# Altium integrated library ON Semi Silicon Controlled Rectifiers (SCRs).IntLib: 163 symbols (part 1 of 4)
Pins are listed as number, name and electrical type; pins without a type are passive.

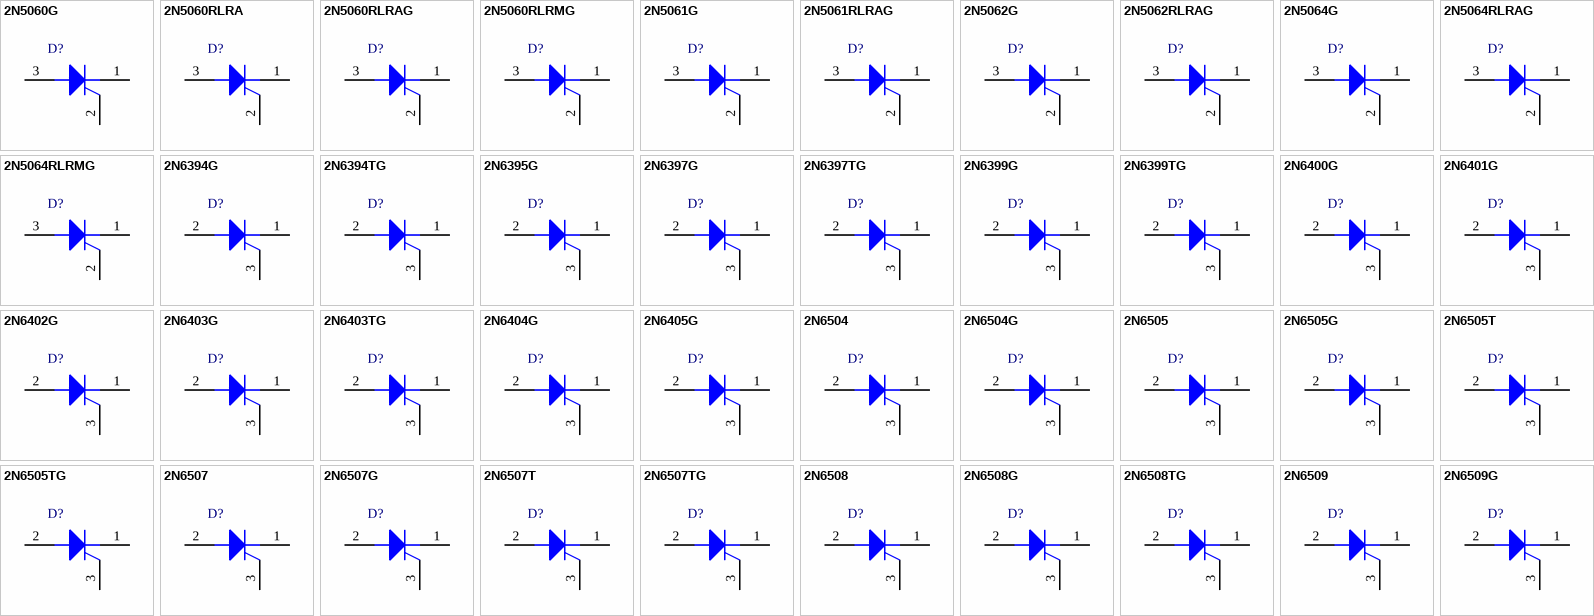
[diagram p0: symbols 2N5060G to 2N6509G]

## 2N5060G
designator D?
Sensitive Gate Silicon Controlled Rectifier, Reverse Blocking Thyristor, 3-Pin TO-92, Pb-Free, Bulk Box; Manufacturer: On Semiconductor; PartNumber: 2N5060G; IT(RMS) Max (A): 0.8; ITSM Max (A): 10; DatasheetVersion: Rev. 10; PackageVersion: Rev. AM; PackageReference: TO-92-3-29-11_AM_SL; PackageDescription: 3-Pin Transistor Outline, Body 4.825 x 3.685 mm, Pitch 1.27 mm; Supplier 1: Digi-Key; Supplier Part Number 1: 2N5060GOS-ND; Supplier 2: Farnell; Supplier Part Number 2: 9556516; Supplier 3: Newark; Supplier Part Number 3: 26K5287; Supplier 4: Mouser; Supplier Part Number 4: 863-2N5060G; Packing: Bulk Box; RoHS: Pb-Free; Mounting Technology: Through Hole; ComponentLink1Description: Manufacturer URL; ComponentLink1URL: http://www.onsemi.com/; ComponentLink2Description: Datasheet; ComponentLink2URL: http://www.onsemi.cn/pub_link/Collateral/2N5060-D.PDF; ComponentLink3Description: Package Specification; ComponentLink3URL: http://www.onsemi.cn/pub_link/Collateral/2N6426-D.PDF
footprint ONSC-TO-92-3-29-11 (TO, 3-Leads, Body Dia 4.7mm, Pitch 1.27mm)
pins: 1 K, 2 G, 3 A

## 2N5060RLRA
designator D?
Sensitive Gate Silicon Controlled Rectifier, Reverse Blocking Thyristor, 3-Pin TO-92, Tape and Reel; Manufacturer: On Semiconductor; PartNumber: 2N5060RLRA; IT(RMS) Max (A): 0.8; ITSM Max (A): 10; DatasheetVersion: Rev. 10; PackageVersion: Rev. AM; PackageReference: TO-92-3-29-11_AM_SL; PackageDescription: 3-Pin Transistor Outline, Body 4.825 x 3.685 mm, Pitch 1.27 mm; Packing: Tape and Reel; Mounting Technology: Through Hole; ComponentLink1Description: Manufacturer URL; ComponentLink1URL: http://www.onsemi.com/; ComponentLink2Description: Datasheet; ComponentLink2URL: http://www.onsemi.cn/pub_link/Collateral/2N5060-D.PDF; ComponentLink3Description: Package Specification; ComponentLink3URL: http://www.onsemi.cn/pub_link/Collateral/2N6426-D.PDF
footprint ONSC-TO-92-3-29-11 (TO, 3-Leads, Body Dia 4.7mm, Pitch 1.27mm)
pins: 1 K, 2 G, 3 A

## 2N5060RLRAG
designator D?
Sensitive Gate Silicon Controlled Rectifier, Reverse Blocking Thyristor, 3-Pin TO-92, Pb-Free, Tape and Reel; Manufacturer: On Semiconductor; PartNumber: 2N5060RLRAG; IT(RMS) Max (A): 0.8; ITSM Max (A): 10; DatasheetVersion: Rev. 10; PackageVersion: Rev. AM; PackageReference: TO-92-3-29-11_AM_SL; PackageDescription: 3-Pin Transistor Outline, Body 4.825 x 3.685 mm, Pitch 1.27 mm; Supplier 1: Digi-Key; Supplier Part Number 1: 2N5060RLRAG-ND; Supplier 2: Newark; Supplier Part Number 2: 72J1868; Supplier 3: Mouser; Supplier Part Number 3: 863-2N5060RLRAG; Packing: Tape and Reel; RoHS: Pb-Free; Mounting Technology: Through Hole; ComponentLink1Description: Manufacturer URL; ComponentLink1URL: http://www.onsemi.com/; ComponentLink2Description: Datasheet; ComponentLink2URL: http://www.onsemi.cn/pub_link/Collateral/2N5060-D.PDF; ComponentLink3Description: Package Specification; ComponentLink3URL: http://www.onsemi.cn/pub_link/Collateral/2N6426-D.PDF
footprint ONSC-TO-92-3-29-11 (TO, 3-Leads, Body Dia 4.7mm, Pitch 1.27mm)
pins: 1 K, 2 G, 3 A

## 2N5060RLRMG
designator D?
Sensitive Gate Silicon Controlled Rectifier, Reverse Blocking Thyristor, 3-Pin TO-92, Pb-Free, Fan-Fold; Manufacturer: On Semiconductor; PartNumber: 2N5060RLRMG; IT(RMS) Max (A): 0.8; ITSM Max (A): 10; DatasheetVersion: Rev. 10; PackageVersion: Rev. AM; PackageReference: TO-92-3-29-11_AM_SL; PackageDescription: 3-Pin Transistor Outline, Body 4.825 x 3.685 mm, Pitch 1.27 mm; Supplier 1: Digi-Key; Supplier Part Number 1: 2N5060RLRMGOSTB-ND; Supplier 2: Digi-Key; Supplier Part Number 2: 2N5060RLRMGOSCT-ND; Supplier 3: Newark; Supplier Part Number 3: 26K5288; Supplier 4: Mouser; Supplier Part Number 4: 863-2N5060RLRMG; Packing: Fan-Fold; RoHS: Pb-Free; Mounting Technology: Through Hole; ComponentLink1Description: Manufacturer URL; ComponentLink1URL: http://www.onsemi.com/; ComponentLink2Description: Datasheet; ComponentLink2URL: http://www.onsemi.cn/pub_link/Collateral/2N5060-D.PDF; ComponentLink3Description: Package Specification; ComponentLink3URL: http://www.onsemi.cn/pub_link/Collateral/2N6426-D.PDF
footprint ONSC-TO-92-3-29-11 (TO, 3-Leads, Body Dia 4.7mm, Pitch 1.27mm)
pins: 1 K, 2 G, 3 A

## 2N5061G
designator D?
Sensitive Gate Silicon Controlled Rectifier, Reverse Blocking Thyristor, 3-Pin TO-92, Pb-Free, Bulk Box; Manufacturer: On Semiconductor; PartNumber: 2N5061G; IT(RMS) Max (A): 0.8; ITSM Max (A): 10; DatasheetVersion: Rev. 10; PackageVersion: Rev. AM; PackageReference: TO-92-3-29-11_AM_SL; PackageDescription: 3-Pin Transistor Outline, Body 4.825 x 3.685 mm, Pitch 1.27 mm; Supplier 1: Digi-Key; Supplier Part Number 1: 2N5061GOS-ND; Supplier 2: Farnell; Supplier Part Number 2: 9556524; Supplier 3: Newark; Supplier Part Number 3: 45J2487; Supplier 4: Mouser; Supplier Part Number 4: 863-2N5061G; Packing: Bulk Box; RoHS: Pb-Free; Mounting Technology: Through Hole; ComponentLink1Description: Manufacturer URL; ComponentLink1URL: http://www.onsemi.com/; ComponentLink2Description: Datasheet; ComponentLink2URL: http://www.onsemi.cn/pub_link/Collateral/2N5060-D.PDF; ComponentLink3Description: Package Specification; ComponentLink3URL: http://www.onsemi.cn/pub_link/Collateral/2N6426-D.PDF
footprint ONSC-TO-92-3-29-11 (TO, 3-Leads, Body Dia 4.7mm, Pitch 1.27mm)
pins: 1 K, 2 G, 3 A

## 2N5061RLRAG
designator D?
Sensitive Gate Silicon Controlled Rectifier, Reverse Blocking Thyristor, 3-Pin TO-92, Pb-Free, Tape and Reel; Manufacturer: On Semiconductor; PartNumber: 2N5061RLRAG; IT(RMS) Max (A): 0.8; ITSM Max (A): 10; DatasheetVersion: Rev. 10; PackageVersion: Rev. AM; PackageReference: TO-92-3-29-11_AM_SL; PackageDescription: 3-Pin Transistor Outline, Body 4.825 x 3.685 mm, Pitch 1.27 mm; Supplier 1: Digi-Key; Supplier Part Number 1: 2N5061RLRAGOSTR-ND; Supplier 2: Digi-Key; Supplier Part Number 2: 2N5061RLRAGOSCT-ND; Supplier 3: Newark; Supplier Part Number 3: 10N9685; Supplier 4: Mouser; Supplier Part Number 4: 863-2N5061RLRAG; Packing: Tape and Reel; RoHS: Pb-Free; Mounting Technology: Through Hole; ComponentLink1Description: Manufacturer URL; ComponentLink1URL: http://www.onsemi.com/; ComponentLink2Description: Datasheet; ComponentLink2URL: http://www.onsemi.cn/pub_link/Collateral/2N5060-D.PDF; ComponentLink3Description: Package Specification; ComponentLink3URL: http://www.onsemi.cn/pub_link/Collateral/2N6426-D.PDF
footprint ONSC-TO-92-3-29-11 (TO, 3-Leads, Body Dia 4.7mm, Pitch 1.27mm)
pins: 1 K, 2 G, 3 A

## 2N5062G
designator D?
Sensitive Gate Silicon Controlled Rectifier, Reverse Blocking Thyristor, 3-Pin TO-92, Pb-Free, Bulk Box; Manufacturer: On Semiconductor; PartNumber: 2N5062G; IT(RMS) Max (A): 0.8; ITSM Max (A): 10; DatasheetVersion: Rev. 10; PackageVersion: Rev. AM; PackageReference: TO-92-3-29-11_AM_SL; PackageDescription: 3-Pin Transistor Outline, Body 4.825 x 3.685 mm, Pitch 1.27 mm; Supplier 1: Digi-Key; Supplier Part Number 1: 2N5062GOS-ND; Supplier 2: Farnell; Supplier Part Number 2: 9556532; Supplier 3: Newark; Supplier Part Number 3: 26K5289; Supplier 4: Mouser; Supplier Part Number 4: 863-2N5062G; Packing: Bulk Box; RoHS: Pb-Free; Mounting Technology: Through Hole; ComponentLink1Description: Manufacturer URL; ComponentLink1URL: http://www.onsemi.com/; ComponentLink2Description: Datasheet; ComponentLink2URL: http://www.onsemi.cn/pub_link/Collateral/2N5060-D.PDF; ComponentLink3Description: Package Specification; ComponentLink3URL: http://www.onsemi.cn/pub_link/Collateral/2N6426-D.PDF
footprint ONSC-TO-92-3-29-11 (TO, 3-Leads, Body Dia 4.7mm, Pitch 1.27mm)
pins: 1 K, 2 G, 3 A

## 2N5062RLRAG
designator D?
Sensitive Gate Silicon Controlled Rectifier, Reverse Blocking Thyristor, 3-Pin TO-92, Pb-Free, Tape and Reel; Manufacturer: On Semiconductor; PartNumber: 2N5062RLRAG; IT(RMS) Max (A): 0.8; ITSM Max (A): 10; DatasheetVersion: Rev. 10; PackageVersion: Rev. AM; PackageReference: TO-92-3-29-11_AM_SL; PackageDescription: 3-Pin Transistor Outline, Body 4.825 x 3.685 mm, Pitch 1.27 mm; Supplier 1: Digi-Key; Supplier Part Number 1: 2N5062RLRAGOSTR-ND; Supplier 2: Digi-Key; Supplier Part Number 2: 2N5062RLRAGOSCT-ND; Supplier 3: Newark; Supplier Part Number 3: 10N9686; Supplier 4: Mouser; Supplier Part Number 4: 863-2N5062RLRAG; Packing: Tape and Reel; RoHS: Pb-Free; Mounting Technology: Through Hole; ComponentLink1Description: Manufacturer URL; ComponentLink1URL: http://www.onsemi.com/; ComponentLink2Description: Datasheet; ComponentLink2URL: http://www.onsemi.cn/pub_link/Collateral/2N5060-D.PDF; ComponentLink3Description: Package Specification; ComponentLink3URL: http://www.onsemi.cn/pub_link/Collateral/2N6426-D.PDF
footprint ONSC-TO-92-3-29-11 (TO, 3-Leads, Body Dia 4.7mm, Pitch 1.27mm)
pins: 1 K, 2 G, 3 A

## 2N5064G
designator D?
Sensitive Gate Silicon Controlled Rectifier, Reverse Blocking Thyristor, 3-Pin TO-92, Pb-Free, Bulk Box; Manufacturer: On Semiconductor; PartNumber: 2N5064G; IT(RMS) Max (A): 0.8; ITSM Max (A): 10; DatasheetVersion: Rev. 10; PackageVersion: Rev. AM; PackageReference: TO-92-3-29-11_AM_SL; PackageDescription: 3-Pin Transistor Outline, Body 4.825 x 3.685 mm, Pitch 1.27 mm; Supplier 1: Digi-Key; Supplier Part Number 1: 2N5064GOS-ND; Supplier 2: Farnell; Supplier Part Number 2: 9556540; Supplier 3: Newark; Supplier Part Number 3: 26K5290; Supplier 4: Mouser; Supplier Part Number 4: 863-2N5064G; Packing: Bulk Box; RoHS: Pb-Free; Mounting Technology: Through Hole; ComponentLink1Description: Manufacturer URL; ComponentLink1URL: http://www.onsemi.com/; ComponentLink2Description: Datasheet; ComponentLink2URL: http://www.onsemi.cn/pub_link/Collateral/2N5060-D.PDF; ComponentLink3Description: Package Specification; ComponentLink3URL: http://www.onsemi.cn/pub_link/Collateral/2N6426-D.PDF
footprint ONSC-TO-92-3-29-11 (TO, 3-Leads, Body Dia 4.7mm, Pitch 1.27mm)
pins: 1 K, 2 G, 3 A

## 2N5064RLRAG
designator D?
Sensitive Gate Silicon Controlled Rectifier, Reverse Blocking Thyristor, 3-Pin TO-92, Pb-Free, Tape and Reel; Manufacturer: On Semiconductor; PartNumber: 2N5064RLRAG; IT(RMS) Max (A): 0.8; ITSM Max (A): 10; DatasheetVersion: Rev. 10; PackageVersion: Rev. AM; PackageReference: TO-92-3-29-11_AM_SL; PackageDescription: 3-Pin Transistor Outline, Body 4.825 x 3.685 mm, Pitch 1.27 mm; Supplier 1: Digi-Key; Supplier Part Number 1: 2N5064RLRAGOSTR-ND; Supplier 2: Digi-Key; Supplier Part Number 2: 2N5064RLRAGOSCT-ND; Supplier 3: Newark; Supplier Part Number 3: 10N9687; Supplier 4: Newark; Supplier Part Number 4: 42K3131; Supplier 5: Mouser; Supplier Part Number 5: 863-2N5064RLRAG; Packing: Tape and Reel; RoHS: Pb-Free; Mounting Technology: Through Hole; ComponentLink1Description: Manufacturer URL; ComponentLink1URL: http://www.onsemi.com/; ComponentLink2Description: Datasheet; ComponentLink2URL: http://www.onsemi.cn/pub_link/Collateral/2N5060-D.PDF; ComponentLink3Description: Package Specification; ComponentLink3URL: http://www.onsemi.cn/pub_link/Collateral/2N6426-D.PDF
footprint ONSC-TO-92-3-29-11 (TO, 3-Leads, Body Dia 4.7mm, Pitch 1.27mm)
pins: 1 K, 2 G, 3 A

## 2N5064RLRMG
designator D?
Sensitive Gate Silicon Controlled Rectifier, Reverse Blocking Thyristor, 3-Pin TO-92, Pb-Free, Fan-Fold; Manufacturer: On Semiconductor; PartNumber: 2N5064RLRMG; IT(RMS) Max (A): 0.8; ITSM Max (A): 10; DatasheetVersion: Rev. 10; PackageVersion: Rev. AM; PackageReference: TO-92-3-29-11_AM_SL; PackageDescription: 3-Pin Transistor Outline, Body 4.825 x 3.685 mm, Pitch 1.27 mm; Supplier 1: Digi-Key; Supplier Part Number 1: 2N5064RLRMGOSTB-ND; Supplier 2: Digi-Key; Supplier Part Number 2: 2N5064RLRMGOSCT-ND; Supplier 3: Mouser; Supplier Part Number 3: 863-2N5064RLRMG; Packing: Fan-Fold; RoHS: Pb-Free; Mounting Technology: Through Hole; ComponentLink1Description: Manufacturer URL; ComponentLink1URL: http://www.onsemi.com/; ComponentLink2Description: Datasheet; ComponentLink2URL: http://www.onsemi.cn/pub_link/Collateral/2N5060-D.PDF; ComponentLink3Description: Package Specification; ComponentLink3URL: http://www.onsemi.cn/pub_link/Collateral/2N6426-D.PDF
footprint ONSC-TO-92-3-29-11 (TO, 3-Leads, Body Dia 4.7mm, Pitch 1.27mm)
pins: 1 K, 2 G, 3 A

## 2N6394G
designator D?
Silicon Controlled Rectifier, Reverse Blocking Thyristor, 30 mA, 1.5 V, 3-Pin TO-220, Pb-Free, Bulk Box; Manufacturer: On Semiconductor; PartNumber: 2N6394G; IGT Max (mA): 30; IT(RMS) Max (A): 12; ITSM Max (A): 100; VGT Max (V): 1.5; DatasheetVersion: Rev. 9; PackageVersion: Rev. O, 07/2008; PackageReference: TO-220-3-221A-07; PackageDescription: 3-Pin Flange Mount, Vertical Straight Lead, Body 9.97 x 4.445 mm, Pitch 2.54 mm; Supplier 1: Digi-Key; Supplier Part Number 1: 2N6394GOS-ND; Supplier 2: Farnell; Supplier Part Number 2: 1126535; Supplier 3: Newark; Supplier Part Number 3: 45J2505; Supplier 4: Mouser; Supplier Part Number 4: 863-2N6394G; Packing: Bulk Box; RoHS: Pb-Free; Mounting Technology: Through Hole; ComponentLink1Description: Manufacturer URL; ComponentLink1URL: http://www.onsemi.com/; ComponentLink2Description: Datasheet; ComponentLink2URL: http://www.onsemi.cn/pub_link/Collateral/2N6394-D.PDF; ComponentLink3Description: Package Specification; ComponentLink3URL: http://www.onsemi.com/pub_link/Collateral/221A-07.PDF
footprint ONSC-TO-220-3-221A-07 (FM, 3-Leads, Body 10.3x4.85mm, Pitch 2.54mm)
pins: 1 K, 2 A, 3 G

## 2N6394TG
designator D?
Silicon Controlled Rectifier, Reverse Blocking Thyristor, 30 mA, 1.5 V, 3-Pin TO-220, Pb-Free, Tube; Manufacturer: On Semiconductor; PartNumber: 2N6394TG; IGT Max (mA): 30; IT(RMS) Max (A): 12; ITSM Max (A): 100; VGT Max (V): 1.5; DatasheetVersion: Rev. 9; PackageVersion: Rev. O, 07/2008; PackageReference: TO-220-3-221A-07; PackageDescription: 3-Pin Flange Mount, Vertical Straight Lead, Body 9.97 x 4.445 mm, Pitch 2.54 mm; Supplier 1: Digi-Key; Supplier Part Number 1: 2N6394TG-ND; Supplier 2: Newark; Supplier Part Number 2: 16M4707; Supplier 3: Mouser; Supplier Part Number 3: 863-2N6394TG; Packing: Tube; RoHS: Pb-Free; Mounting Technology: Through Hole; ComponentLink1Description: Manufacturer URL; ComponentLink1URL: http://www.onsemi.com/; ComponentLink2Description: Datasheet; ComponentLink2URL: http://www.onsemi.cn/pub_link/Collateral/2N6394-D.PDF; ComponentLink3Description: Package Specification; ComponentLink3URL: http://www.onsemi.com/pub_link/Collateral/221A-07.PDF
footprint ONSC-TO-220-3-221A-07 (FM, 3-Leads, Body 10.3x4.85mm, Pitch 2.54mm)
pins: 1 K, 2 A, 3 G

## 2N6395G
designator D?
Silicon Controlled Rectifier, Reverse Blocking Thyristor, 30 mA, 1.5 V, 3-Pin TO-220, Pb-Free, Bulk Box; Manufacturer: On Semiconductor; PartNumber: 2N6395G; IGT Max (mA): 30; IT(RMS) Max (A): 12; ITSM Max (A): 100; VGT Max (V): 1.5; DatasheetVersion: Rev. 9; PackageVersion: Rev. O, 07/2008; PackageReference: TO-220-3-221A-07; PackageDescription: 3-Pin Flange Mount, Vertical Straight Lead, Body 9.97 x 4.445 mm, Pitch 2.54 mm; Supplier 1: Digi-Key; Supplier Part Number 1: 2N6395GOS-ND; Supplier 2: Farnell; Supplier Part Number 2: 1282782; Supplier 3: Newark; Supplier Part Number 3: 26K5320; Supplier 4: Mouser; Supplier Part Number 4: 863-2N6395G; Packing: Bulk Box; RoHS: Pb-Free; Mounting Technology: Through Hole; ComponentLink1Description: Manufacturer URL; ComponentLink1URL: http://www.onsemi.com/; ComponentLink2Description: Datasheet; ComponentLink2URL: http://www.onsemi.cn/pub_link/Collateral/2N6394-D.PDF; ComponentLink3Description: Package Specification; ComponentLink3URL: http://www.onsemi.com/pub_link/Collateral/221A-07.PDF
footprint ONSC-TO-220-3-221A-07 (FM, 3-Leads, Body 10.3x4.85mm, Pitch 2.54mm)
pins: 1 K, 2 A, 3 G

## 2N6397G
designator D?
Silicon Controlled Rectifier, Reverse Blocking Thyristor, 30 mA, 1.5 V, 3-Pin TO-220, Pb-Free, Bulk Box; Manufacturer: On Semiconductor; PartNumber: 2N6397G; IGT Max (mA): 30; IT(RMS) Max (A): 12; ITSM Max (A): 100; VGT Max (V): 1.5; DatasheetVersion: Rev. 9; PackageVersion: Rev. O, 07/2008; PackageReference: TO-220-3-221A-07; PackageDescription: 3-Pin Flange Mount, Vertical Straight Lead, Body 9.97 x 4.445 mm, Pitch 2.54 mm; Supplier 1: Digi-Key; Supplier Part Number 1: 2N6397GOS-ND; Supplier 2: Farnell; Supplier Part Number 2: 9556753; Supplier 3: Newark; Supplier Part Number 3: 26K5321; Supplier 4: Mouser; Supplier Part Number 4: 863-2N6397G; Packing: Bulk Box; RoHS: Pb-Free; Mounting Technology: Through Hole; ComponentLink1Description: Manufacturer URL; ComponentLink1URL: http://www.onsemi.com/; ComponentLink2Description: Datasheet; ComponentLink2URL: http://www.onsemi.cn/pub_link/Collateral/2N6394-D.PDF; ComponentLink3Description: Package Specification; ComponentLink3URL: http://www.onsemi.com/pub_link/Collateral/221A-07.PDF
footprint ONSC-TO-220-3-221A-07 (FM, 3-Leads, Body 10.3x4.85mm, Pitch 2.54mm)
pins: 1 K, 2 A, 3 G

## 2N6397TG
designator D?
Silicon Controlled Rectifier, Reverse Blocking Thyristor, 30 mA, 1.5 V, 3-Pin TO-220, Pb-Free, Tube; Manufacturer: On Semiconductor; PartNumber: 2N6397TG; IGT Max (mA): 30; IT(RMS) Max (A): 12; ITSM Max (A): 100; VGT Max (V): 1.5; DatasheetVersion: Rev. 9; PackageVersion: Rev. O, 07/2008; PackageReference: TO-220-3-221A-07; PackageDescription: 3-Pin Flange Mount, Vertical Straight Lead, Body 9.97 x 4.445 mm, Pitch 2.54 mm; Supplier 1: Digi-Key; Supplier Part Number 1: 2N6397TG-ND; Supplier 2: Newark; Supplier Part Number 2: 42K3178; Supplier 3: Mouser; Supplier Part Number 3: 863-2N6397TG; Packing: Tube; RoHS: Pb-Free; Mounting Technology: Through Hole; ComponentLink1Description: Manufacturer URL; ComponentLink1URL: http://www.onsemi.com/; ComponentLink2Description: Datasheet; ComponentLink2URL: http://www.onsemi.cn/pub_link/Collateral/2N6394-D.PDF; ComponentLink3Description: Package Specification; ComponentLink3URL: http://www.onsemi.com/pub_link/Collateral/221A-07.PDF
footprint ONSC-TO-220-3-221A-07 (FM, 3-Leads, Body 10.3x4.85mm, Pitch 2.54mm)
pins: 1 K, 2 A, 3 G

## 2N6399G
designator D?
Silicon Controlled Rectifier, Reverse Blocking Thyristor, 30 mA, 1.5 V, 3-Pin TO-220, Pb-Free, Bulk Box; Manufacturer: On Semiconductor; PartNumber: 2N6399G; IGT Max (mA): 30; IT(RMS) Max (A): 12; ITSM Max (A): 100; VGT Max (V): 1.5; DatasheetVersion: Rev. 9; PackageVersion: Rev. O, 07/2008; PackageReference: TO-220-3-221A-07; PackageDescription: 3-Pin Flange Mount, Vertical Straight Lead, Body 9.97 x 4.445 mm, Pitch 2.54 mm; Supplier 1: Digi-Key; Supplier Part Number 1: 2N6399GOS-ND; Supplier 2: Farnell; Supplier Part Number 2: 1459025; Supplier 3: Newark; Supplier Part Number 3: 72J1871; Supplier 4: Mouser; Supplier Part Number 4: 863-2N6399G; Packing: Bulk Box; RoHS: Pb-Free; Mounting Technology: Through Hole; ComponentLink1Description: Manufacturer URL; ComponentLink1URL: http://www.onsemi.com/; ComponentLink2Description: Datasheet; ComponentLink2URL: http://www.onsemi.cn/pub_link/Collateral/2N6394-D.PDF; ComponentLink3Description: Package Specification; ComponentLink3URL: http://www.onsemi.com/pub_link/Collateral/221A-07.PDF
footprint ONSC-TO-220-3-221A-07 (FM, 3-Leads, Body 10.3x4.85mm, Pitch 2.54mm)
pins: 1 K, 2 A, 3 G

## 2N6399TG
designator D?
Silicon Controlled Rectifier, Reverse Blocking Thyristor, 30 mA, 1.5 V, 3-Pin TO-220, Pb-Free, Tube; Manufacturer: On Semiconductor; PartNumber: 2N6399TG; IGT Max (mA): 30; IT(RMS) Max (A): 12; ITSM Max (A): 100; VGT Max (V): 1.5; DatasheetVersion: Rev. 9; PackageVersion: Rev. O, 07/2008; PackageReference: TO-220-3-221A-07; PackageDescription: 3-Pin Flange Mount, Vertical Straight Lead, Body 9.97 x 4.445 mm, Pitch 2.54 mm; Supplier 1: Digi-Key; Supplier Part Number 1: 2N6399TG-ND; Supplier 2: Mouser; Supplier Part Number 2: 863-2N6399TG; Packing: Tube; RoHS: Pb-Free; Mounting Technology: Through Hole; ComponentLink1Description: Manufacturer URL; ComponentLink1URL: http://www.onsemi.com/; ComponentLink2Description: Datasheet; ComponentLink2URL: http://www.onsemi.cn/pub_link/Collateral/2N6394-D.PDF; ComponentLink3Description: Package Specification; ComponentLink3URL: http://www.onsemi.com/pub_link/Collateral/221A-07.PDF
footprint ONSC-TO-220-3-221A-07 (FM, 3-Leads, Body 10.3x4.85mm, Pitch 2.54mm)
pins: 1 K, 2 A, 3 G

## 2N6400G
designator D?
Silicon Controlled Rectifier, Reverse Blocking Thyristor, 3-Pin TO-220, Pb-Free, Bulk Box; Manufacturer: On Semiconductor; PartNumber: 2N6400G; IT(RMS) Max (A): 16; ITSM Max (A): 160; DatasheetVersion: Rev. 6; PackageVersion: Rev. O, 07/2008; PackageReference: TO-220-3-221A-07; PackageDescription: 3-Pin Flange Mount, Vertical Straight Lead, Body 9.97 x 4.445 mm, Pitch 2.54 mm; Supplier 1: Digi-Key; Supplier Part Number 1: 2N6400GOS-ND; Supplier 2: Farnell; Supplier Part Number 2: 1126367; Supplier 3: Newark; Supplier Part Number 3: 42K3179; Supplier 4: Mouser; Supplier Part Number 4: 863-2N6400G; Packing: Bulk Box; RoHS: Pb-Free; Mounting Technology: Through Hole; ComponentLink1Description: Manufacturer URL; ComponentLink1URL: http://www.onsemi.com/; ComponentLink2Description: Datasheet; ComponentLink2URL: http://www.onsemi.cn/pub_link/Collateral/2N6400-D.PDF; ComponentLink3Description: Package Specification; ComponentLink3URL: http://www.onsemi.com/pub_link/Collateral/221A-07.PDF
footprint ONSC-TO-220-3-221A-07 (FM, 3-Leads, Body 10.3x4.85mm, Pitch 2.54mm)
pins: 1 K, 2 A, 3 G

## 2N6401G
designator D?
Silicon Controlled Rectifier, Reverse Blocking Thyristor, 3-Pin TO-220, Pb-Free, Bulk Box; Manufacturer: On Semiconductor; PartNumber: 2N6401G; IT(RMS) Max (A): 16; ITSM Max (A): 160; DatasheetVersion: Rev. 6; PackageVersion: Rev. O, 07/2008; PackageReference: TO-220-3-221A-07; PackageDescription: 3-Pin Flange Mount, Vertical Straight Lead, Body 9.97 x 4.445 mm, Pitch 2.54 mm; Supplier 1: Digi-Key; Supplier Part Number 1: 2N6401GOS-ND; Supplier 2: Farnell; Supplier Part Number 2: 1204516; Supplier 3: Newark; Supplier Part Number 3: 72J1872; Supplier 4: Mouser; Supplier Part Number 4: 863-2N6401G; Packing: Bulk Box; RoHS: Pb-Free; Mounting Technology: Through Hole; ComponentLink1Description: Manufacturer URL; ComponentLink1URL: http://www.onsemi.com/; ComponentLink2Description: Datasheet; ComponentLink2URL: http://www.onsemi.cn/pub_link/Collateral/2N6400-D.PDF; ComponentLink3Description: Package Specification; ComponentLink3URL: http://www.onsemi.com/pub_link/Collateral/221A-07.PDF
footprint ONSC-TO-220-3-221A-07 (FM, 3-Leads, Body 10.3x4.85mm, Pitch 2.54mm)
pins: 1 K, 2 A, 3 G

## 2N6402G
designator D?
Silicon Controlled Rectifier, Reverse Blocking Thyristor, 3-Pin TO-220, Pb-Free, Bulk Box; Manufacturer: On Semiconductor; PartNumber: 2N6402G; IT(RMS) Max (A): 16; ITSM Max (A): 160; DatasheetVersion: Rev. 6; PackageVersion: Rev. O, 07/2008; PackageReference: TO-220-3-221A-07; PackageDescription: 3-Pin Flange Mount, Vertical Straight Lead, Body 9.97 x 4.445 mm, Pitch 2.54 mm; Supplier 1: Digi-Key; Supplier Part Number 1: 2N6402GOS-ND; Supplier 2: Farnell; Supplier Part Number 2: 1147765; Supplier 3: Newark; Supplier Part Number 3: 42K3180; Supplier 4: Mouser; Supplier Part Number 4: 863-2N6402G; Packing: Bulk Box; RoHS: Pb-Free; Mounting Technology: Through Hole; ComponentLink1Description: Manufacturer URL; ComponentLink1URL: http://www.onsemi.com/; ComponentLink2Description: Datasheet; ComponentLink2URL: http://www.onsemi.cn/pub_link/Collateral/2N6400-D.PDF; ComponentLink3Description: Package Specification; ComponentLink3URL: http://www.onsemi.com/pub_link/Collateral/221A-07.PDF
footprint ONSC-TO-220-3-221A-07 (FM, 3-Leads, Body 10.3x4.85mm, Pitch 2.54mm)
pins: 1 K, 2 A, 3 G

## 2N6403G
designator D?
Silicon Controlled Rectifier, Reverse Blocking Thyristor, 3-Pin TO-220, Pb-Free, Bulk Box; Manufacturer: On Semiconductor; PartNumber: 2N6403G; IT(RMS) Max (A): 16; ITSM Max (A): 160; DatasheetVersion: Rev. 6; PackageVersion: Rev. O, 07/2008; PackageReference: TO-220-3-221A-07; PackageDescription: 3-Pin Flange Mount, Vertical Straight Lead, Body 9.97 x 4.445 mm, Pitch 2.54 mm; Supplier 1: Digi-Key; Supplier Part Number 1: 2N6403GOS-ND; Supplier 2: Farnell; Supplier Part Number 2: 1459026; Supplier 3: Newark; Supplier Part Number 3: 26K5322; Supplier 4: Mouser; Supplier Part Number 4: 863-2N6403G; Packing: Bulk Box; RoHS: Pb-Free; Mounting Technology: Through Hole; ComponentLink1Description: Manufacturer URL; ComponentLink1URL: http://www.onsemi.com/; ComponentLink2Description: Datasheet; ComponentLink2URL: http://www.onsemi.cn/pub_link/Collateral/2N6400-D.PDF; ComponentLink3Description: Package Specification; ComponentLink3URL: http://www.onsemi.com/pub_link/Collateral/221A-07.PDF
footprint ONSC-TO-220-3-221A-07 (FM, 3-Leads, Body 10.3x4.85mm, Pitch 2.54mm)
pins: 1 K, 2 A, 3 G

## 2N6403TG
designator D?
Silicon Controlled Rectifier, Reverse Blocking Thyristor, 3-Pin TO-220, Pb-Free, Tube; Manufacturer: On Semiconductor; PartNumber: 2N6403TG; IT(RMS) Max (A): 16; ITSM Max (A): 160; DatasheetVersion: Rev. 6; PackageVersion: Rev. O, 07/2008; PackageReference: TO-220-3-221A-07; PackageDescription: 3-Pin Flange Mount, Vertical Straight Lead, Body 9.97 x 4.445 mm, Pitch 2.54 mm; Supplier 1: Digi-Key; Supplier Part Number 1: 2N6403TG-ND; Supplier 2: Newark; Supplier Part Number 2: 01P5202; Supplier 3: Mouser; Supplier Part Number 3: 863-2N6403TG; Packing: Tube; RoHS: Pb-Free; Mounting Technology: Through Hole; ComponentLink1Description: Manufacturer URL; ComponentLink1URL: http://www.onsemi.com/; ComponentLink2Description: Datasheet; ComponentLink2URL: http://www.onsemi.cn/pub_link/Collateral/2N6400-D.PDF; ComponentLink3Description: Package Specification; ComponentLink3URL: http://www.onsemi.com/pub_link/Collateral/221A-07.PDF
footprint ONSC-TO-220-3-221A-07 (FM, 3-Leads, Body 10.3x4.85mm, Pitch 2.54mm)
pins: 1 K, 2 A, 3 G

## 2N6404G
designator D?
Silicon Controlled Rectifier, Reverse Blocking Thyristor, 3-Pin TO-220, Pb-Free, Bulk Box; Manufacturer: On Semiconductor; PartNumber: 2N6404G; IT(RMS) Max (A): 16; ITSM Max (A): 160; DatasheetVersion: Rev. 6; PackageVersion: Rev. O, 07/2008; PackageReference: TO-220-3-221A-07; PackageDescription: 3-Pin Flange Mount, Vertical Straight Lead, Body 9.97 x 4.445 mm, Pitch 2.54 mm; Supplier 1: Digi-Key; Supplier Part Number 1: 2N6404GOS-ND; Supplier 2: Farnell; Supplier Part Number 2: 1126368; Supplier 3: Newark; Supplier Part Number 3: 42K3181; Supplier 4: Mouser; Supplier Part Number 4: 863-2N6404G; Packing: Bulk Box; RoHS: Pb-Free; Mounting Technology: Through Hole; ComponentLink1Description: Manufacturer URL; ComponentLink1URL: http://www.onsemi.com/; ComponentLink2Description: Datasheet; ComponentLink2URL: http://www.onsemi.cn/pub_link/Collateral/2N6400-D.PDF; ComponentLink3Description: Package Specification; ComponentLink3URL: http://www.onsemi.com/pub_link/Collateral/221A-07.PDF
footprint ONSC-TO-220-3-221A-07 (FM, 3-Leads, Body 10.3x4.85mm, Pitch 2.54mm)
pins: 1 K, 2 A, 3 G

## 2N6405G
designator D?
Silicon Controlled Rectifier, Reverse Blocking Thyristor, 3-Pin TO-220, Pb-Free, Bulk Box; Manufacturer: On Semiconductor; PartNumber: 2N6405G; IT(RMS) Max (A): 16; ITSM Max (A): 160; DatasheetVersion: Rev. 6; PackageVersion: Rev. O, 07/2008; PackageReference: TO-220-3-221A-07; PackageDescription: 3-Pin Flange Mount, Vertical Straight Lead, Body 9.97 x 4.445 mm, Pitch 2.54 mm; Supplier 1: Digi-Key; Supplier Part Number 1: 2N6405GOS-ND; Supplier 2: Farnell; Supplier Part Number 2: 9556176; Supplier 3: Newark; Supplier Part Number 3: 42K3182; Supplier 4: Mouser; Supplier Part Number 4: 863-2N6405G; Packing: Bulk Box; RoHS: Pb-Free; Mounting Technology: Through Hole; ComponentLink1Description: Manufacturer URL; ComponentLink1URL: http://www.onsemi.com/; ComponentLink2Description: Datasheet; ComponentLink2URL: http://www.onsemi.cn/pub_link/Collateral/2N6400-D.PDF; ComponentLink3Description: Package Specification; ComponentLink3URL: http://www.onsemi.com/pub_link/Collateral/221A-07.PDF
footprint ONSC-TO-220-3-221A-07 (FM, 3-Leads, Body 10.3x4.85mm, Pitch 2.54mm)
pins: 1 K, 2 A, 3 G

## 2N6504
designator D?
Silicon Controlled Rectifier, Reverse Blocking Thyristor, 1.5 V, 3-Pin TO-220, Bulk Box; Manufacturer: On Semiconductor; PartNumber: 2N6504; IT(RMS) Max (A): 25; ITSM Max (A): 250; VGT Max (V): 1.5; DatasheetVersion: Rev. 8; PackageVersion: Rev. O, 07/2008; PackageReference: TO-220-3-221A-07; PackageDescription: 3-Pin Flange Mount, Vertical Straight Lead, Body 9.97 x 4.445 mm, Pitch 2.54 mm; Packing: Bulk Box; Mounting Technology: Through Hole; ComponentLink1Description: Manufacturer URL; ComponentLink1URL: http://www.onsemi.com/; ComponentLink2Description: Datasheet; ComponentLink2URL: http://www.onsemi.cn/pub_link/Collateral/2N6504-D.PDF; ComponentLink3Description: Package Specification; ComponentLink3URL: http://www.onsemi.com/pub_link/Collateral/221A-07.PDF
footprint ONSC-TO-220-3-221A-07 (FM, 3-Leads, Body 10.3x4.85mm, Pitch 2.54mm)
pins: 1 K, 2 A, 3 G

## 2N6504G
designator D?
Silicon Controlled Rectifier, Reverse Blocking Thyristor, 1.5 V, 3-Pin TO-220, Pb-Free, Bulk Box; Manufacturer: On Semiconductor; PartNumber: 2N6504G; IT(RMS) Max (A): 25; ITSM Max (A): 250; VGT Max (V): 1.5; DatasheetVersion: Rev. 8; PackageVersion: Rev. O, 07/2008; PackageReference: TO-220-3-221A-07; PackageDescription: 3-Pin Flange Mount, Vertical Straight Lead, Body 9.97 x 4.445 mm, Pitch 2.54 mm; Supplier 1: Digi-Key; Supplier Part Number 1: 2N6504GOS-ND; Supplier 2: Farnell; Supplier Part Number 2: 1203002; Supplier 3: Newark; Supplier Part Number 3: 45J2508; Supplier 4: Mouser; Supplier Part Number 4: 863-2N6504G; Packing: Bulk Box; RoHS: Pb-Free; Mounting Technology: Through Hole; ComponentLink1Description: Manufacturer URL; ComponentLink1URL: http://www.onsemi.com/; ComponentLink2Description: Datasheet; ComponentLink2URL: http://www.onsemi.cn/pub_link/Collateral/2N6504-D.PDF; ComponentLink3Description: Package Specification; ComponentLink3URL: http://www.onsemi.com/pub_link/Collateral/221A-07.PDF
footprint ONSC-TO-220-3-221A-07 (FM, 3-Leads, Body 10.3x4.85mm, Pitch 2.54mm)
pins: 1 K, 2 A, 3 G

## 2N6505
designator D?
Silicon Controlled Rectifier, Reverse Blocking Thyristor, 1.5 V, 3-Pin TO-220, Bulk Box; Manufacturer: On Semiconductor; PartNumber: 2N6505; IT(RMS) Max (A): 25; ITSM Max (A): 250; VGT Max (V): 1.5; DatasheetVersion: Rev. 8; PackageVersion: Rev. O, 07/2008; PackageReference: TO-220-3-221A-07; PackageDescription: 3-Pin Flange Mount, Vertical Straight Lead, Body 9.97 x 4.445 mm, Pitch 2.54 mm; Packing: Bulk Box; Mounting Technology: Through Hole; ComponentLink1Description: Manufacturer URL; ComponentLink1URL: http://www.onsemi.com/; ComponentLink2Description: Datasheet; ComponentLink2URL: http://www.onsemi.cn/pub_link/Collateral/2N6504-D.PDF; ComponentLink3Description: Package Specification; ComponentLink3URL: http://www.onsemi.com/pub_link/Collateral/221A-07.PDF
footprint ONSC-TO-220-3-221A-07 (FM, 3-Leads, Body 10.3x4.85mm, Pitch 2.54mm)
pins: 1 K, 2 A, 3 G

## 2N6505G
designator D?
Silicon Controlled Rectifier, Reverse Blocking Thyristor, 1.5 V, 3-Pin TO-220, Pb-Free, Bulk Box; Manufacturer: On Semiconductor; PartNumber: 2N6505G; IT(RMS) Max (A): 25; ITSM Max (A): 250; VGT Max (V): 1.5; DatasheetVersion: Rev. 8; PackageVersion: Rev. O, 07/2008; PackageReference: TO-220-3-221A-07; PackageDescription: 3-Pin Flange Mount, Vertical Straight Lead, Body 9.97 x 4.445 mm, Pitch 2.54 mm; Supplier 1: Digi-Key; Supplier Part Number 1: 2N6505GOS-ND; Supplier 2: Farnell; Supplier Part Number 2: 1189362; Supplier 3: Newark; Supplier Part Number 3: 26K5326; Supplier 4: Mouser; Supplier Part Number 4: 863-2N6505G; Packing: Bulk Box; RoHS: Pb-Free; Mounting Technology: Through Hole; ComponentLink1Description: Manufacturer URL; ComponentLink1URL: http://www.onsemi.com/; ComponentLink2Description: Datasheet; ComponentLink2URL: http://www.onsemi.cn/pub_link/Collateral/2N6504-D.PDF; ComponentLink3Description: Package Specification; ComponentLink3URL: http://www.onsemi.com/pub_link/Collateral/221A-07.PDF
footprint ONSC-TO-220-3-221A-07 (FM, 3-Leads, Body 10.3x4.85mm, Pitch 2.54mm)
pins: 1 K, 2 A, 3 G

## 2N6505T
designator D?
Silicon Controlled Rectifier, Reverse Blocking Thyristor, 1.5 V, 3-Pin TO-220, Tube; Manufacturer: On Semiconductor; PartNumber: 2N6505T; IT(RMS) Max (A): 25; ITSM Max (A): 250; VGT Max (V): 1.5; DatasheetVersion: Rev. 8; PackageVersion: Rev. O, 07/2008; PackageReference: TO-220-3-221A-07; PackageDescription: 3-Pin Flange Mount, Vertical Straight Lead, Body 9.97 x 4.445 mm, Pitch 2.54 mm; Supplier 1: Mouser; Supplier Part Number 1: 863-2N6505T; Packing: Tube; Mounting Technology: Through Hole; ComponentLink1Description: Manufacturer URL; ComponentLink1URL: http://www.onsemi.com/; ComponentLink2Description: Datasheet; ComponentLink2URL: http://www.onsemi.cn/pub_link/Collateral/2N6504-D.PDF; ComponentLink3Description: Package Specification; ComponentLink3URL: http://www.onsemi.com/pub_link/Collateral/221A-07.PDF
footprint ONSC-TO-220-3-221A-07 (FM, 3-Leads, Body 10.3x4.85mm, Pitch 2.54mm)
pins: 1 K, 2 A, 3 G

## 2N6505TG
designator D?
Silicon Controlled Rectifier, Reverse Blocking Thyristor, 1.5 V, 3-Pin TO-220, Pb-Free, Tube; Manufacturer: On Semiconductor; PartNumber: 2N6505TG; IT(RMS) Max (A): 25; ITSM Max (A): 250; VGT Max (V): 1.5; DatasheetVersion: Rev. 8; PackageVersion: Rev. O, 07/2008; PackageReference: TO-220-3-221A-07; PackageDescription: 3-Pin Flange Mount, Vertical Straight Lead, Body 9.97 x 4.445 mm, Pitch 2.54 mm; Supplier 1: Digi-Key; Supplier Part Number 1: 2N6505TG-ND; Supplier 2: Mouser; Supplier Part Number 2: 863-2N6505TG; Packing: Tube; RoHS: Pb-Free; Mounting Technology: Through Hole; ComponentLink1Description: Manufacturer URL; ComponentLink1URL: http://www.onsemi.com/; ComponentLink2Description: Datasheet; ComponentLink2URL: http://www.onsemi.cn/pub_link/Collateral/2N6504-D.PDF; ComponentLink3Description: Package Specification; ComponentLink3URL: http://www.onsemi.com/pub_link/Collateral/221A-07.PDF
footprint ONSC-TO-220-3-221A-07 (FM, 3-Leads, Body 10.3x4.85mm, Pitch 2.54mm)
pins: 1 K, 2 A, 3 G

## 2N6507
designator D?
Silicon Controlled Rectifier, Reverse Blocking Thyristor, 1.5 V, 3-Pin TO-220, Bulk Box; Manufacturer: On Semiconductor; PartNumber: 2N6507; IT(RMS) Max (A): 25; ITSM Max (A): 250; VGT Max (V): 1.5; DatasheetVersion: Rev. 8; PackageVersion: Rev. O, 07/2008; PackageReference: TO-220-3-221A-07; PackageDescription: 3-Pin Flange Mount, Vertical Straight Lead, Body 9.97 x 4.445 mm, Pitch 2.54 mm; Packing: Bulk Box; Mounting Technology: Through Hole; ComponentLink1Description: Manufacturer URL; ComponentLink1URL: http://www.onsemi.com/; ComponentLink2Description: Datasheet; ComponentLink2URL: http://www.onsemi.cn/pub_link/Collateral/2N6504-D.PDF; ComponentLink3Description: Package Specification; ComponentLink3URL: http://www.onsemi.com/pub_link/Collateral/221A-07.PDF
footprint ONSC-TO-220-3-221A-07 (FM, 3-Leads, Body 10.3x4.85mm, Pitch 2.54mm)
pins: 1 K, 2 A, 3 G

## 2N6507G
designator D?
Silicon Controlled Rectifier, Reverse Blocking Thyristor, 1.5 V, 3-Pin TO-220, Pb-Free, Bulk Box; Manufacturer: On Semiconductor; PartNumber: 2N6507G; IT(RMS) Max (A): 25; ITSM Max (A): 250; VGT Max (V): 1.5; DatasheetVersion: Rev. 8; PackageVersion: Rev. O, 07/2008; PackageReference: TO-220-3-221A-07; PackageDescription: 3-Pin Flange Mount, Vertical Straight Lead, Body 9.97 x 4.445 mm, Pitch 2.54 mm; Supplier 1: Digi-Key; Supplier Part Number 1: 2N6507GOS-ND; Supplier 2: Farnell; Supplier Part Number 2: 9557199; Supplier 3: Newark; Supplier Part Number 3: 26K5327; Supplier 4: Mouser; Supplier Part Number 4: 863-2N6507G; Packing: Bulk Box; RoHS: Pb-Free; Mounting Technology: Through Hole; ComponentLink1Description: Manufacturer URL; ComponentLink1URL: http://www.onsemi.com/; ComponentLink2Description: Datasheet; ComponentLink2URL: http://www.onsemi.cn/pub_link/Collateral/2N6504-D.PDF; ComponentLink3Description: Package Specification; ComponentLink3URL: http://www.onsemi.com/pub_link/Collateral/221A-07.PDF
footprint ONSC-TO-220-3-221A-07 (FM, 3-Leads, Body 10.3x4.85mm, Pitch 2.54mm)
pins: 1 K, 2 A, 3 G

## 2N6507T
designator D?
Silicon Controlled Rectifier, Reverse Blocking Thyristor, 1.5 V, 3-Pin TO-220, Tube; Manufacturer: On Semiconductor; PartNumber: 2N6507T; IT(RMS) Max (A): 25; ITSM Max (A): 250; VGT Max (V): 1.5; DatasheetVersion: Rev. 8; PackageVersion: Rev. O, 07/2008; PackageReference: TO-220-3-221A-07; PackageDescription: 3-Pin Flange Mount, Vertical Straight Lead, Body 9.97 x 4.445 mm, Pitch 2.54 mm; Packing: Tube; Mounting Technology: Through Hole; ComponentLink1Description: Manufacturer URL; ComponentLink1URL: http://www.onsemi.com/; ComponentLink2Description: Datasheet; ComponentLink2URL: http://www.onsemi.cn/pub_link/Collateral/2N6504-D.PDF; ComponentLink3Description: Package Specification; ComponentLink3URL: http://www.onsemi.com/pub_link/Collateral/221A-07.PDF
footprint ONSC-TO-220-3-221A-07 (FM, 3-Leads, Body 10.3x4.85mm, Pitch 2.54mm)
pins: 1 K, 2 A, 3 G

## 2N6507TG
designator D?
Silicon Controlled Rectifier, Reverse Blocking Thyristor, 1.5 V, 3-Pin TO-220, Pb-Free, Tube; Manufacturer: On Semiconductor; PartNumber: 2N6507TG; IT(RMS) Max (A): 25; ITSM Max (A): 250; VGT Max (V): 1.5; DatasheetVersion: Rev. 8; PackageVersion: Rev. O, 07/2008; PackageReference: TO-220-3-221A-07; PackageDescription: 3-Pin Flange Mount, Vertical Straight Lead, Body 9.97 x 4.445 mm, Pitch 2.54 mm; Supplier 1: Digi-Key; Supplier Part Number 1: 2N6507TGOS-ND; Supplier 2: Farnell; Supplier Part Number 2: 1706025; Supplier 3: Newark; Supplier Part Number 3: 72J1875; Supplier 4: Mouser; Supplier Part Number 4: 863-2N6507TG; Packing: Tube; RoHS: Pb-Free; Mounting Technology: Through Hole; ComponentLink1Description: Manufacturer URL; ComponentLink1URL: http://www.onsemi.com/; ComponentLink2Description: Datasheet; ComponentLink2URL: http://www.onsemi.cn/pub_link/Collateral/2N6504-D.PDF; ComponentLink3Description: Package Specification; ComponentLink3URL: http://www.onsemi.com/pub_link/Collateral/221A-07.PDF
footprint ONSC-TO-220-3-221A-07 (FM, 3-Leads, Body 10.3x4.85mm, Pitch 2.54mm)
pins: 1 K, 2 A, 3 G

## 2N6508
designator D?
Silicon Controlled Rectifier, Reverse Blocking Thyristor, 1.5 V, 3-Pin TO-220, Bulk Box; Manufacturer: On Semiconductor; PartNumber: 2N6508; IT(RMS) Max (A): 25; ITSM Max (A): 250; VGT Max (V): 1.5; DatasheetVersion: Rev. 8; PackageVersion: Rev. O, 07/2008; PackageReference: TO-220-3-221A-07; PackageDescription: 3-Pin Flange Mount, Vertical Straight Lead, Body 9.97 x 4.445 mm, Pitch 2.54 mm; Packing: Bulk Box; Mounting Technology: Through Hole; ComponentLink1Description: Manufacturer URL; ComponentLink1URL: http://www.onsemi.com/; ComponentLink2Description: Datasheet; ComponentLink2URL: http://www.onsemi.cn/pub_link/Collateral/2N6504-D.PDF; ComponentLink3Description: Package Specification; ComponentLink3URL: http://www.onsemi.com/pub_link/Collateral/221A-07.PDF
footprint ONSC-TO-220-3-221A-07 (FM, 3-Leads, Body 10.3x4.85mm, Pitch 2.54mm)
pins: 1 K, 2 A, 3 G

## 2N6508G
designator D?
Silicon Controlled Rectifier, Reverse Blocking Thyristor, 1.5 V, 3-Pin TO-220, Pb-Free, Bulk Box; Manufacturer: On Semiconductor; PartNumber: 2N6508G; IT(RMS) Max (A): 25; ITSM Max (A): 250; VGT Max (V): 1.5; DatasheetVersion: Rev. 8; PackageVersion: Rev. O, 07/2008; PackageReference: TO-220-3-221A-07; PackageDescription: 3-Pin Flange Mount, Vertical Straight Lead, Body 9.97 x 4.445 mm, Pitch 2.54 mm; Supplier 1: Digi-Key; Supplier Part Number 1: 2N6508GOS-ND; Supplier 2: Farnell; Supplier Part Number 2: 9557180; Supplier 3: Newark; Supplier Part Number 3: 45J2509; Supplier 4: Mouser; Supplier Part Number 4: 863-2N6508G; Packing: Bulk Box; RoHS: Pb-Free; Mounting Technology: Through Hole; ComponentLink1Description: Manufacturer URL; ComponentLink1URL: http://www.onsemi.com/; ComponentLink2Description: Datasheet; ComponentLink2URL: http://www.onsemi.cn/pub_link/Collateral/2N6504-D.PDF; ComponentLink3Description: Package Specification; ComponentLink3URL: http://www.onsemi.com/pub_link/Collateral/221A-07.PDF
footprint ONSC-TO-220-3-221A-07 (FM, 3-Leads, Body 10.3x4.85mm, Pitch 2.54mm)
pins: 1 K, 2 A, 3 G

## 2N6508TG
designator D?
Silicon Controlled Rectifier, Reverse Blocking Thyristor, 1.5 V, 3-Pin TO-220, Pb-Free, Tube; Manufacturer: On Semiconductor; PartNumber: 2N6508TG; IT(RMS) Max (A): 25; ITSM Max (A): 250; VGT Max (V): 1.5; DatasheetVersion: Rev. 8; PackageVersion: Rev. O, 07/2008; PackageReference: TO-220-3-221A-07; PackageDescription: 3-Pin Flange Mount, Vertical Straight Lead, Body 9.97 x 4.445 mm, Pitch 2.54 mm; Supplier 1: Digi-Key; Supplier Part Number 1: 2N6508TG-ND; Supplier 2: Newark; Supplier Part Number 2: 01P5203; Supplier 3: Mouser; Supplier Part Number 3: 863-2N6508TG; Packing: Tube; RoHS: Pb-Free; Mounting Technology: Through Hole; ComponentLink1Description: Manufacturer URL; ComponentLink1URL: http://www.onsemi.com/; ComponentLink2Description: Datasheet; ComponentLink2URL: http://www.onsemi.cn/pub_link/Collateral/2N6504-D.PDF; ComponentLink3Description: Package Specification; ComponentLink3URL: http://www.onsemi.com/pub_link/Collateral/221A-07.PDF
footprint ONSC-TO-220-3-221A-07 (FM, 3-Leads, Body 10.3x4.85mm, Pitch 2.54mm)
pins: 1 K, 2 A, 3 G

## 2N6509
designator D?
Silicon Controlled Rectifier, Reverse Blocking Thyristor, 1.5 V, 3-Pin TO-220, Bulk Box; Manufacturer: On Semiconductor; PartNumber: 2N6509; IT(RMS) Max (A): 25; ITSM Max (A): 250; VGT Max (V): 1.5; DatasheetVersion: Rev. 8; PackageVersion: Rev. O, 07/2008; PackageReference: TO-220-3-221A-07; PackageDescription: 3-Pin Flange Mount, Vertical Straight Lead, Body 9.97 x 4.445 mm, Pitch 2.54 mm; Packing: Bulk Box; Mounting Technology: Through Hole; ComponentLink1Description: Manufacturer URL; ComponentLink1URL: http://www.onsemi.com/; ComponentLink2Description: Datasheet; ComponentLink2URL: http://www.onsemi.cn/pub_link/Collateral/2N6504-D.PDF; ComponentLink3Description: Package Specification; ComponentLink3URL: http://www.onsemi.com/pub_link/Collateral/221A-07.PDF
footprint ONSC-TO-220-3-221A-07 (FM, 3-Leads, Body 10.3x4.85mm, Pitch 2.54mm)
pins: 1 K, 2 A, 3 G

## 2N6509G
designator D?
Silicon Controlled Rectifier, Reverse Blocking Thyristor, 1.5 V, 3-Pin TO-220, Pb-Free, Bulk Box; Manufacturer: On Semiconductor; PartNumber: 2N6509G; IT(RMS) Max (A): 25; ITSM Max (A): 250; VGT Max (V): 1.5; DatasheetVersion: Rev. 8; PackageVersion: Rev. O, 07/2008; PackageReference: TO-220-3-221A-07; PackageDescription: 3-Pin Flange Mount, Vertical Straight Lead, Body 9.97 x 4.445 mm, Pitch 2.54 mm; Supplier 1: Digi-Key; Supplier Part Number 1: 2N6509GOS-ND; Supplier 2: Farnell; Supplier Part Number 2: 9557202; Supplier 3: Newark; Supplier Part Number 3: 42K3186; Supplier 4: Mouser; Supplier Part Number 4: 863-2N6509G; Packing: Bulk Box; RoHS: Pb-Free; Mounting Technology: Through Hole; ComponentLink1Description: Manufacturer URL; ComponentLink1URL: http://www.onsemi.com/; ComponentLink2Description: Datasheet; ComponentLink2URL: http://www.onsemi.cn/pub_link/Collateral/2N6504-D.PDF; ComponentLink3Description: Package Specification; ComponentLink3URL: http://www.onsemi.com/pub_link/Collateral/221A-07.PDF
footprint ONSC-TO-220-3-221A-07 (FM, 3-Leads, Body 10.3x4.85mm, Pitch 2.54mm)
pins: 1 K, 2 A, 3 G

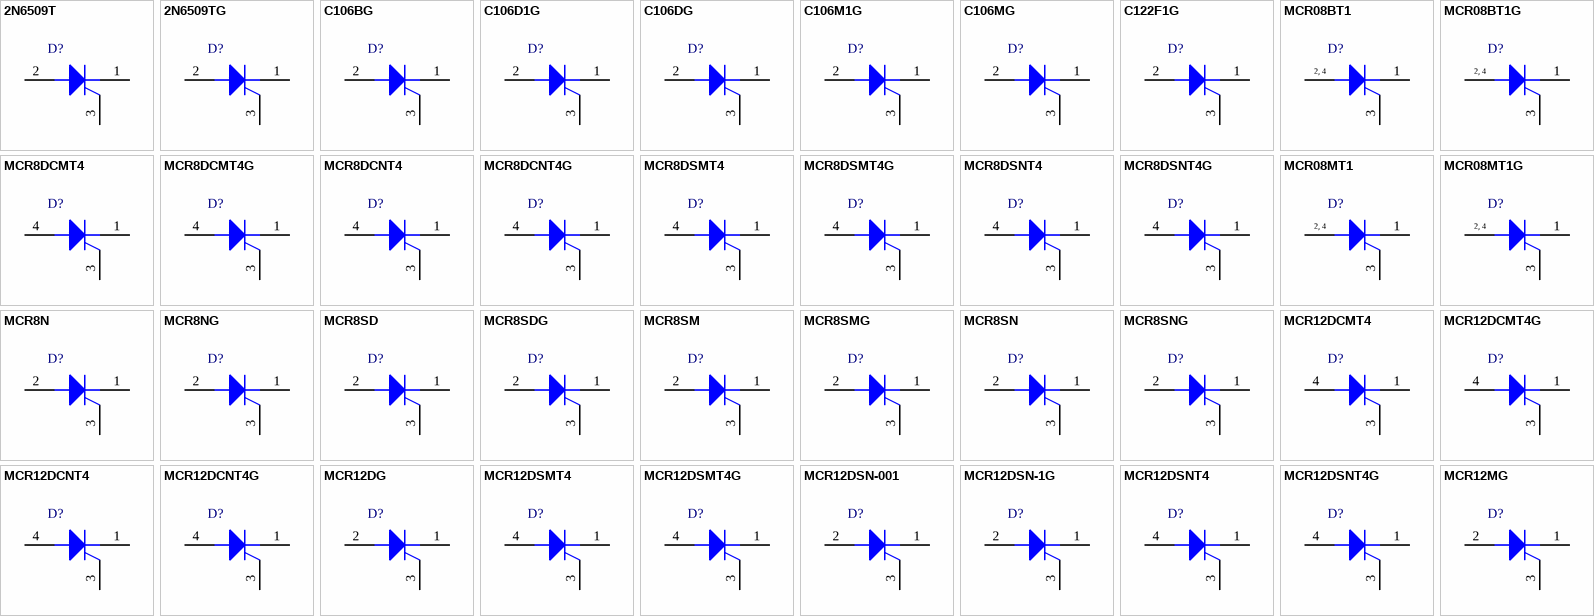
[diagram p1: symbols 2N6509T to MCR12MG]

## 2N6509T
designator D?
Silicon Controlled Rectifier, Reverse Blocking Thyristor, 1.5 V, 3-Pin TO-220, Tube; Manufacturer: On Semiconductor; PartNumber: 2N6509T; IT(RMS) Max (A): 25; ITSM Max (A): 250; VGT Max (V): 1.5; DatasheetVersion: Rev. 8; PackageVersion: Rev. O, 07/2008; PackageReference: TO-220-3-221A-07; PackageDescription: 3-Pin Flange Mount, Vertical Straight Lead, Body 9.97 x 4.445 mm, Pitch 2.54 mm; Supplier 1: Digi-Key; Supplier Part Number 1: 2N6509T-ND; Packing: Tube; Mounting Technology: Through Hole; ComponentLink1Description: Manufacturer URL; ComponentLink1URL: http://www.onsemi.com/; ComponentLink2Description: Datasheet; ComponentLink2URL: http://www.onsemi.cn/pub_link/Collateral/2N6504-D.PDF; ComponentLink3Description: Package Specification; ComponentLink3URL: http://www.onsemi.com/pub_link/Collateral/221A-07.PDF
footprint ONSC-TO-220-3-221A-07 (FM, 3-Leads, Body 10.3x4.85mm, Pitch 2.54mm)
pins: 1 K, 2 A, 3 G

## 2N6509TG
designator D?
Silicon Controlled Rectifier, Reverse Blocking Thyristor, 1.5 V, 3-Pin TO-220, Pb-Free, Tube; Manufacturer: On Semiconductor; PartNumber: 2N6509TG; IT(RMS) Max (A): 25; ITSM Max (A): 250; VGT Max (V): 1.5; DatasheetVersion: Rev. 8; PackageVersion: Rev. O, 07/2008; PackageReference: TO-220-3-221A-07; PackageDescription: 3-Pin Flange Mount, Vertical Straight Lead, Body 9.97 x 4.445 mm, Pitch 2.54 mm; Supplier 1: Digi-Key; Supplier Part Number 1: 2N6509TGOS-ND; Supplier 2: Farnell; Supplier Part Number 2: 1705932; Supplier 3: Newark; Supplier Part Number 3: 42K3187; Supplier 4: Mouser; Supplier Part Number 4: 863-2N6509TG; Packing: Tube; RoHS: Pb-Free; Mounting Technology: Through Hole; ComponentLink1Description: Manufacturer URL; ComponentLink1URL: http://www.onsemi.com/; ComponentLink2Description: Datasheet; ComponentLink2URL: http://www.onsemi.cn/pub_link/Collateral/2N6504-D.PDF; ComponentLink3Description: Package Specification; ComponentLink3URL: http://www.onsemi.com/pub_link/Collateral/221A-07.PDF
footprint ONSC-TO-220-3-221A-07 (FM, 3-Leads, Body 10.3x4.85mm, Pitch 2.54mm)
pins: 1 K, 2 A, 3 G

## C106BG
designator D?
Sensitive Gate Silicon Controlled Rectifier, Reverse Blocking Thyristor, 3-Pin TO-225, Pb-Free, Bulk Box; Manufacturer: On Semiconductor; PartNumber: C106BG; IT(RMS) Max (A): 4; ITSM Max (A): 20; DatasheetVersion: Rev. 10; PackageVersion: Rev. Z; PackageReference: TO-225-3-77-09; PackageDescription: 3-Pin Flange Mount, Vertical Straight Lead, Body 7.62 x 2.54 mm, Pitch 2.39 mm; Supplier 1: Digi-Key; Supplier Part Number 1: C106BGOS-ND; Supplier 2: Farnell; Supplier Part Number 2: 1126220; Supplier 3: Newark; Supplier Part Number 3: 41K9729; Supplier 4: Mouser; Supplier Part Number 4: 863-C106BG; Packing: Bulk Box; RoHS: Pb-Free; Mounting Technology: Through Hole; ComponentLink1Description: Manufacturer URL; ComponentLink1URL: http://www.onsemi.com/; ComponentLink2Description: Datasheet; ComponentLink2URL: http://www.onsemi.cn/pub_link/Collateral/C106-D.PDF; ComponentLink3Description: Package Specification; ComponentLink3URL: http://www.onsemi.cn/pub_link/Collateral/C106-D.PDF
footprint ONSC-TO-225-3-77-09_Z (FM, 3-Leads, Body 7.75x2.7mm, Pitch 2.39mm)
pins: 1 K, 2 A, 3 G

## C106D1G
designator D?
Sensitive Gate Silicon Controlled Rectifier, Reverse Blocking Thyristor, 3-Pin TO-225, Pb-Free, Bulk Box; Manufacturer: On Semiconductor; PartNumber: C106D1G; IT(RMS) Max (A): 4; ITSM Max (A): 20; DatasheetVersion: Rev. 10; PackageVersion: Rev. Z; PackageReference: TO-225-3-77-09; PackageDescription: 3-Pin Flange Mount, Vertical Straight Lead, Body 7.62 x 2.54 mm, Pitch 2.39 mm; Supplier 1: Digi-Key; Supplier Part Number 1: C106D1GOS-ND; Supplier 2: Farnell; Supplier Part Number 2: 9556494; Supplier 3: Newark; Supplier Part Number 3: 98H0549; Supplier 4: Mouser; Supplier Part Number 4: 863-C106D1G; Packing: Bulk Box; RoHS: Pb-Free; Mounting Technology: Through Hole; ComponentLink1Description: Manufacturer URL; ComponentLink1URL: http://www.onsemi.com/; ComponentLink2Description: Datasheet; ComponentLink2URL: http://www.onsemi.cn/pub_link/Collateral/C106-D.PDF; ComponentLink3Description: Package Specification; ComponentLink3URL: http://www.onsemi.cn/pub_link/Collateral/C106-D.PDF
footprint ONSC-TO-225-3-77-09_Z (FM, 3-Leads, Body 7.75x2.7mm, Pitch 2.39mm)
pins: 1 K, 2 A, 3 G

## C106DG
designator D?
Sensitive Gate Silicon Controlled Rectifier, Reverse Blocking Thyristor, 3-Pin TO-225, Pb-Free, Bulk Box; Manufacturer: On Semiconductor; PartNumber: C106DG; IT(RMS) Max (A): 4; ITSM Max (A): 20; DatasheetVersion: Rev. 10; PackageVersion: Rev. Z; PackageReference: TO-225-3-77-09; PackageDescription: 3-Pin Flange Mount, Vertical Straight Lead, Body 7.62 x 2.54 mm, Pitch 2.39 mm; Supplier 1: Digi-Key; Supplier Part Number 1: C106DGOS-ND; Supplier 2: Farnell; Supplier Part Number 2: 2101366; Supplier 3: Newark; Supplier Part Number 3: 26K3582; Supplier 4: Mouser; Supplier Part Number 4: 863-C106DG; Packing: Bulk Box; RoHS: Pb-Free; Mounting Technology: Through Hole; ComponentLink1Description: Manufacturer URL; ComponentLink1URL: http://www.onsemi.com/; ComponentLink2Description: Datasheet; ComponentLink2URL: http://www.onsemi.cn/pub_link/Collateral/C106-D.PDF; ComponentLink3Description: Package Specification; ComponentLink3URL: http://www.onsemi.cn/pub_link/Collateral/C106-D.PDF
footprint ONSC-TO-225-3-77-09_Z (FM, 3-Leads, Body 7.75x2.7mm, Pitch 2.39mm)
pins: 1 K, 2 A, 3 G

## C106M1G
designator D?
Sensitive Gate Silicon Controlled Rectifier, Reverse Blocking Thyristor, 3-Pin TO-225, Pb-Free, Bulk Box; Manufacturer: On Semiconductor; PartNumber: C106M1G; IT(RMS) Max (A): 4; ITSM Max (A): 20; DatasheetVersion: Rev. 10; PackageVersion: Rev. Z; PackageReference: TO-225-3-77-09; PackageDescription: 3-Pin Flange Mount, Vertical Straight Lead, Body 7.62 x 2.54 mm, Pitch 2.39 mm; Supplier 1: Digi-Key; Supplier Part Number 1: C106M1GOS-ND; Supplier 2: Farnell; Supplier Part Number 2: 9556508; Supplier 3: Newark; Supplier Part Number 3: 26K3583; Supplier 4: Mouser; Supplier Part Number 4: 863-C106M1G; Packing: Bulk Box; RoHS: Pb-Free; Mounting Technology: Through Hole; ComponentLink1Description: Manufacturer URL; ComponentLink1URL: http://www.onsemi.com/; ComponentLink2Description: Datasheet; ComponentLink2URL: http://www.onsemi.cn/pub_link/Collateral/C106-D.PDF; ComponentLink3Description: Package Specification; ComponentLink3URL: http://www.onsemi.cn/pub_link/Collateral/C106-D.PDF
footprint ONSC-TO-225-3-77-09_Z (FM, 3-Leads, Body 7.75x2.7mm, Pitch 2.39mm)
pins: 1 K, 2 A, 3 G